# Altium footprint library missing_components.PcbLib: 1 footprints
Each footprint in its own frame and in the unit in brackets; x right, y up, seen from the top. Pads: shape width x height; smd on the part's side, far side on the other; paste and mask are expansions set on the pad; w line width, h text height; cw(c..) or ccw(c..) is an arc to the next point about the centre after c.
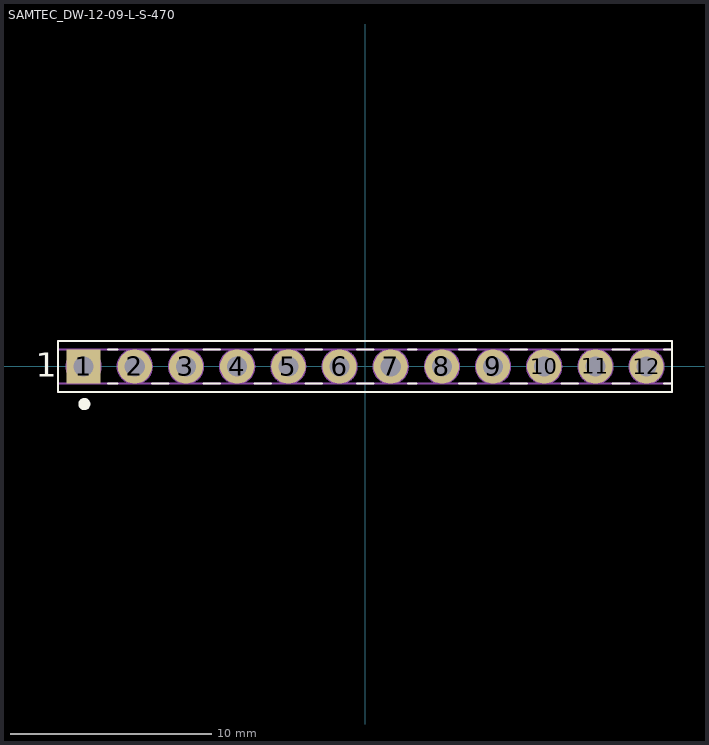
[diagram p0: the footprint, top view; thin cyan lines are the x and y axes]

## SAMTEC_DW-12-09-L-S-470 [mm] "12 Contacts, Pitch 2.54mm, Single Row Straight,Flexible Board Stacker (Stacker Height = 11,938mm)"
height 11.938
pads (12):
  rect 1.7x1.7 hole 1: 1(-13.97,0)
  round 1.7 hole 1: 2(-11.43,0) 3(-8.89,0) 4(-6.35,0) 5(-3.81,0) 6(-1.27,0) 7(1.27,0) 8(3.81,0) 9(6.35,0) 10(8.89,0) 11(11.43,0) 12(13.97,0)
Top Overlay:
  circle w0.3: c-13.935,-1.865 r0.15
  lines w0.1: -12.77,-0.838 -12.289,-0.838 ; -12.77,0.838 -12.289,0.838 ; -10.571,-0.838 -9.749,-0.838 ; -10.571,0.838 -9.749,0.838 ; -8.031,-0.838 -7.209,-0.838 ; -8.031,0.838 -7.209,0.838 ; -5.491,-0.838 -4.669,-0.838 ; -5.491,0.838 -4.669,0.838 ; -2.951,-0.838 -2.129,-0.838 ; -2.951,0.838 -2.129,0.838 ; -0.411,-0.838 0.411,-0.838 ; -0.411,0.838 0.411,0.838 ; 2.129,-0.838 2.54,-0.838 ; 2.129,0.838 2.54,0.838 ; 4.669,-0.838 5.491,-0.838 ; 4.669,0.838 5.491,0.838 ; 7.209,-0.838 8.031,-0.838 ; 7.209,0.838 8.031,0.838 ; 9.749,-0.838 10.571,-0.838 ; 9.749,0.838 10.571,0.838 ; 12.289,-0.838 13.111,-0.838 ; 12.289,0.838 13.111,0.838 ; 14.829,-0.838 15.24,-0.838 ; 14.829,0.838 15.24,0.838 ; -15.24,-1.27 15.24,-1.27 15.24,1.27 -15.24,1.27 -15.24,-1.27
  text "1" at -16.342,-0.498 h1.2
Mechanical 8:
  circle w0.1: c13.97,0 r0.85
  circle w0.1: c13.97,0 r0.5
  circle w0.1: c11.43,0 r0.85
  circle w0.1: c11.43,0 r0.5
  circle w0.1: c8.89,0 r0.85
  circle w0.1: c8.89,0 r0.5
  circle w0.1: c6.35,0 r0.85
  circle w0.1: c6.35,0 r0.5
  circle w0.1: c3.81,0 r0.85
  circle w0.1: c3.81,0 r0.5
  circle w0.1: c1.27,0 r0.85
  circle w0.1: c1.27,0 r0.5
  circle w0.1: c-1.27,0 r0.85
  circle w0.1: c-1.27,0 r0.5
  circle w0.1: c-11.43,0 r0.85
  circle w0.1: c-11.43,0 r0.5
  circle w0.1: c-13.97,0 r0.85
  circle w0.1: c-13.97,0 r0.5
  circle w0.1: c-3.81,0 r0.85
  circle w0.1: c-3.81,0 r0.5
  circle w0.1: c-6.35,0 r0.85
  circle w0.1: c-6.35,0 r0.5
  circle w0.1: c-8.89,0 r0.85
  circle w0.1: c-8.89,0 r0.5
  lines w0.1: -14.17,0 -13.97,0 ; -13.97,-0.2 -13.97,0 ; -13.97,0.2 -13.97,0 ; -13.77,0 -13.97,0 ; -11.63,0 -11.43,0 ; -11.43,-0.2 -11.43,0 ; -11.43,0.2 -11.43,0 ; -11.23,0 -11.43,0 ; -9.09,0 -8.89,0 ; -8.89,-0.2 -8.89,0 ; -8.89,0.2 -8.89,0 ; -8.69,0 -8.89,0 ; -6.85,0 -6.35,0 ; -6.35,-0.5 -6.35,0 ; -6.35,0.5 -6.35,0 ; -5.85,0 -6.35,0 ; -4.01,0 -3.81,0 ; -3.81,-0.2 -3.81,0 ; -3.81,0.2 -3.81,0 ; -3.61,0 -3.81,0 ; -1.47,0 -1.27,0 ; -1.27,-0.2 -1.27,0 ; -1.27,0.2 -1.27,0 ; -1.07,0 -1.27,0 ; 1.07,0 1.27,0 ; 1.27,-0.2 1.27,0 ; 1.27,0.2 1.27,0 ; 1.47,0 1.27,0 ; 3.61,0 3.81,0 ; 3.81,-0.2 3.81,0 ; 3.81,0.2 3.81,0 ; 4.01,0 3.81,0 ; 5.85,0 6.35,0 ; 6.35,-0.5 6.35,0 ; 6.35,0.5 6.35,0 ; 6.85,0 6.35,0 ; 8.69,0 8.89,0 ; 8.89,-0.2 8.89,0 ; 8.89,0.2 8.89,0 ; 9.09,0 8.89,0 ; 11.23,0 11.43,0 ; 11.43,-0.2 11.43,0 ; 11.43,0.2 11.43,0 ; 11.63,0 11.43,0 ; 13.77,0 13.97,0 ; 13.97,-0.2 13.97,0 ; 13.97,0.2 13.97,0 ; 14.17,0 13.97,0
Mechanical 14:
  lines w0.1: -15.24,-0.838 15.24,-0.838 ; -15.24,0.838 15.24,0.838 ; -15.24,-1.27 15.24,-1.27 15.24,1.27 -15.24,1.27 -15.24,-1.27 ; -14.287,-0.317 -14.287,0.318 -13.652,0.318 -13.652,-0.317 -14.287,-0.317 ; -11.747,-0.317 -11.747,0.318 -11.112,0.318 -11.112,-0.317 -11.747,-0.317 ; -9.207,-0.317 -9.207,0.318 -8.572,0.318 -8.572,-0.317 -9.207,-0.317 ; -6.667,-0.317 -6.667,0.318 -6.032,0.318 -6.032,-0.317 -6.667,-0.317 ; -4.127,-0.317 -4.127,0.318 -3.492,0.318 -3.492,-0.317 -4.127,-0.317 ; -1.587,-0.317 -1.587,0.318 -0.953,0.318 -0.953,-0.317 -1.587,-0.317 ; 0.953,-0.317 0.953,0.318 1.587,0.318 1.587,-0.317 0.953,-0.317 ; 3.492,-0.317 3.492,0.318 4.127,0.318 4.127,-0.317 3.492,-0.317 ; 6.032,-0.317 6.032,0.318 6.667,0.318 6.667,-0.317 6.032,-0.317 ; 8.572,-0.317 8.572,0.318 9.207,0.318 9.207,-0.317 8.572,-0.317 ; 11.112,-0.317 11.112,0.318 11.747,0.318 11.747,-0.317 11.112,-0.317 ; 13.652,-0.317 13.652,0.318 14.287,0.318 14.287,-0.317 13.652,-0.317
3D body "SAMTEC_DW-03-09-L-S-470.stp": height 15.75, standoff -2.79, extent -15.24,-1.27 -7.62,1.27
3D body "SAMTEC_DW-03-09-L-S-470.stp": height 15.75, standoff -2.79, extent -7.62,-1.27 0,1.27
3D body "SAMTEC_DW-03-09-L-S-470.stp": height 15.75, standoff -2.79, extent 0,-1.27 7.62,1.27
3D body "SAMTEC_DW-03-09-L-S-470.stp": height 15.75, standoff -2.79, extent 7.62,-1.27 15.24,1.27